# EAGLE library part RN-XV-S (library myLib)
RN-XV-S 802.11 b/g networking module http://rovingnetworks.com/products/RN171XV
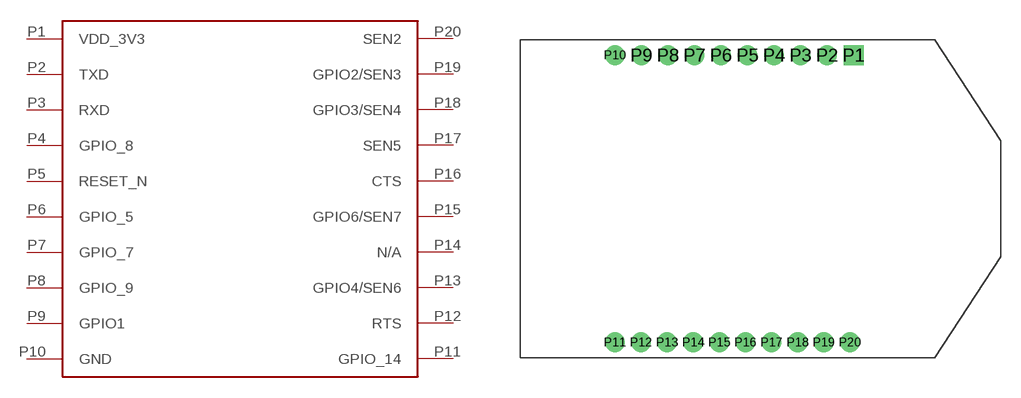
[diagram p7: symbol with the pads of RN_XV; footprint RN_XV]

Designator prefix -

## RN-XV-S  [RN_XV]
P1  VDD_3V3
P2  TXD
P3  RXD
P4  GPIO_8
P5  RESET_N
P6  GPIO_5
P7  GPIO_7
P8  GPIO_9
P9  GPIO1
P10  GND
P11  GPIO_14
P12  RTS
P13  GPIO4/SEN6
P14  N/A
P15  GPIO6/SEN7
P16  CTS
P17  SEN5
P18  GPIO3/SEN4
P19  GPIO2/SEN3
P20  SEN2

## Footprint RN_XV (pad centres in mm)
drill 1 pad 1.422 square: P1 8.407,10.998
drill 1 pad 1.422: P2 6.375,10.998; P3 4.343,10.998; P4 2.311,10.998; P5 0.279,10.998; P6 -1.753,10.998; P7 -3.785,10.998; P8 -5.817,10.998; P9 -7.849,10.998; P10 -9.881,10.998; P11 -9.881,-10.998; P12 -7.881,-10.998; P13 -5.881,-10.998; P14 -3.881,-10.998; P15 -1.881,-10.998; P16 0.119,-10.998; P17 2.119,-10.998; P18 4.119,-10.998; P19 6.119,-10.998; P20 8.119,-10.998